# Altium integrated library L77SDE09SA4CH4F.IntLib: 1 symbol
Pins are listed as number, name and electrical type; pins without a type are passive.

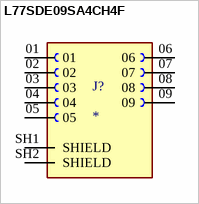
[diagram p0: symbol L77SDE09SA4CH4F]

## L77SDE09SA4CH4F
designator J?
Connector d-sub rt angle pcb recept 4-40 threaded hole w/screwlock 9 socket cont | Amphenol Commercial (Amphenol CS) L77SDE09SA4CH4F; MF: Amphenol ICC (Commercial Products); SnapEDA_Link: https://www.snapeda.com/parts/L77SDE09SA4CH4F/Amphenol/view-part/?ref=snap; Package: None; Value: *; MP: L77SDE09SA4CH4F; Check_prices: https://www.snapeda.com/parts/L77SDE09SA4CH4F/Amphenol/view-part/?ref=eda
footprint AMPHENOL_L77SDE09SA4CH4F
pins: 01, 02, 03, 04, 05, 06, 07, 08, 09, SH1 SHIELD, SH2 SHIELD